# Altium schematic symbol library LED_0402.SchLib: 1 symbol
Pins are listed as number, name and electrical type; pins without a type are passive.

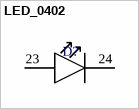
[diagram p0: symbol LED_0402]

## LED_0402
designator D?  (value not drawn)
footprint LED_0402
pins: 23, 24